# Altium schematic symbol library MOSFETs-DFN.SchLib: 1 symbol
Pins are listed as number, name and electrical type; pins without a type are passive.

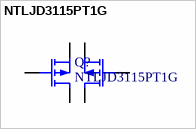
[diagram p0: symbol NTLJD3115PT1G]

## NTLJD3115PT1G
designator Q?
P-Channel MOSFET; Manufacturer: ON Semiconductor; Mounting Technology: Surface Mount; PartNumber: NTLJD3115PT1G; PackageReference: WDFN-6
footprint WDFN-6 (SON, 6-Leads, Body 2x2mm, Pitch 0.65mm, Thermal Pad 1.6x1mm, TI Recommended)
pins: 1 S1, 2 G1, 3 D2, 4 S2, 5 G2, 6 D1